# Altium footprint library buck2.PcbLib: 24 footprints (part 2 of 2)
Each footprint in its own frame and in the unit in brackets; x right, y up, seen from the top. Pads: shape width x height; smd on the part's side, far side on the other; paste and mask are expansions set on the pad; w line width, h text height; cw(c..) or ccw(c..) is an arc to the next point about the centre after c.
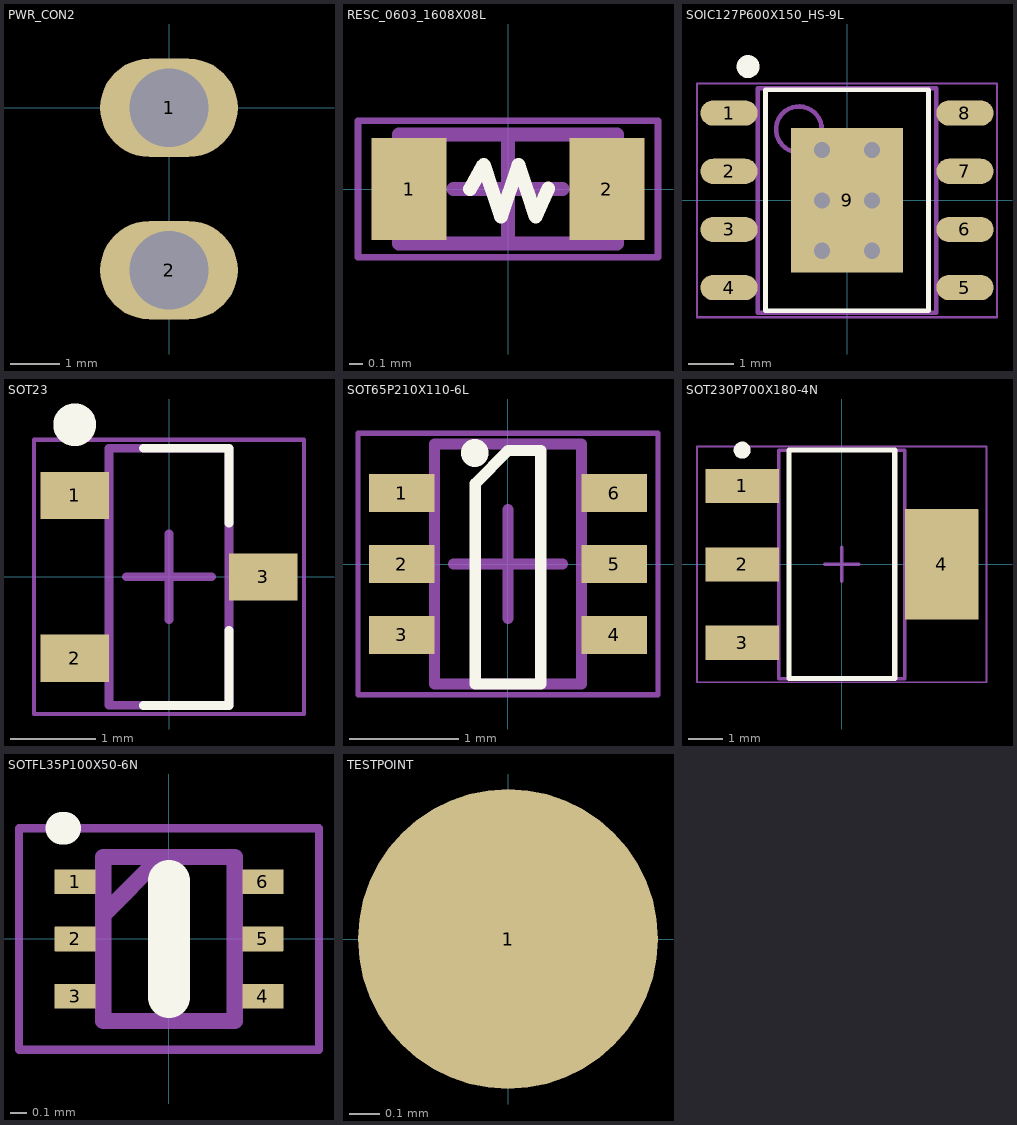
[diagram p1: the footprints below, top view; thin cyan lines are the x and y axes]

## PWR_CON2 [mm]
pads (2):
  oval 2.8x2 hole 1.6: 1(0,0) 2(0,-3.302)

## RESC_0603_1608X08L [mm] "Chip Resistor, 2-Leads, Body 1.60x0.80mm, IPC High Density"
height 0.8
pads (2):
  rrect1% 0.55x0.75 smd: 1(-0.725,0) 2(0.725,0)
Top Overlay:
  lines w0.102: -0.279,0 -0.178,0.178 -0.051,-0.203 0.076,0.178 0.203,-0.203 0.295,0.004
Mechanical 13:
  lines w0.1: -0.8,-0.4 -0.8,0.4 0.8,0.4 0.8,-0.4 -0.8,-0.4
Mechanical 15:
  lines w0.05: -1.1,-0.5 -1.1,0.5 1.1,0.5 1.1,-0.5 -1.1,-0.5
  lines w0.1: -0.4,0 0.4,0 ; 0,-0.4 0,0.4
3D body "RESC_0603_1608X08L.step": height 0.8, standoff 0, extent -0.8,-0.4 0.8,0.4

## SOIC127P600X150_HS-9L [mm] "SOIC, 8-Leads, Body 4.88x3.85mm, Pitch 1.27mm, Thermal Pad 3.15x2.45mm, IPC High Density"
height 1.5
pads (9):
  oval 1.25x0.55 smd: 1(-2.575,1.905) 2(-2.575,0.635) 3(-2.575,-0.635) 4(-2.575,-1.905) 5(2.575,-1.905) 6(2.575,-0.635) 7(2.575,0.635) 8(2.575,1.905)
  rect 2.45x3.15 smd: 9(0,0)
via 0.55,-1.1 diameter 0.5 hole 0.35
via -0.55,-1.1 diameter 0.5 hole 0.35
via 0.55,0 diameter 0.5 hole 0.35
via -0.55,0 diameter 0.5 hole 0.35
via 0.55,1.1 diameter 0.5 hole 0.35
via -0.55,1.1 diameter 0.5 hole 0.35
Top Overlay:
  circle w0.25: c-2.159,2.921 r0.125
  lines w0.102: -1.778,-2.413 1.778,-2.413 1.778,2.413 -1.778,2.413 -1.778,-2.413
Top Solder:
  circle w0.2: c-0.55,-1.1 r0.339
  circle w0.2: c0.55,-1.1 r0.347
  circle w0.2: c-0.55,0 r0.339
  circle w0.2: c0.55,0 r0.347
  circle w0.2: c0.55,1.1 r0.347
  circle w0.2: c-0.55,1.1 r0.339
  region: -1.194,1.549 1.168,1.549 1.168,1.372 -1.194,1.372
  region: -1.194,1.549 -0.813,1.549 -0.813,-1.549 -1.194,-1.549
  region: -1.194,0.813 1.194,0.813 1.194,0.279 -1.194,0.279
  region: -1.194,-0.279 1.194,-0.279 1.194,-0.813 -1.194,-0.813
  region: -1.194,-1.372 1.194,-1.372 1.194,-1.549 -1.194,-1.549
  region: -0.279,1.549 0.279,1.549 0.279,-1.372 -0.279,-1.372
  region: 0.813,1.549 1.194,1.549 1.194,-1.549 0.813,-1.549
Mechanical 13:
  circle w0.1: c-1.05,1.55 r0.5
  lines w0.1: -1.95,-2.45 1.95,-2.45 1.95,2.45 -1.95,2.45 -1.95,-2.45
Mechanical 15:
  lines w0.05: -3.275,-2.55 3.275,-2.55 3.275,2.55 -3.275,2.55 -3.275,-2.55
  lines w0.1: -0.5,0 0.5,0 ; 0,-0.5 0,0.5
3D body "SOIC127P600X150_HS-9L.step": height 1.5, standoff 0, extent -2.975,-2.45 2.975,2.45

## SOT23 [mm] "SOT23, 3-Leads, Body 2.90x2.45mm, Pitch 0.95mm, IPC High Density"
height 1.1
pads (3):
  rrect1% 0.8x0.55 smd: 1(-1.1,0.95) 2(-1.1,-0.95) 3(1.1,0)
Top Overlay:
  circle w0.25: c-1.1,1.775 r0.125
  lines w0.102: -0.3,-1.5 0.7,-1.5 0.7,-0.626 ; -0.3,1.5 0.7,1.5 0.7,0.626
Mechanical 13:
  lines w0.1: -0.7,-1.5 0.7,-1.5 0.7,1.5 -0.7,1.5 -0.7,-1.5
Mechanical 15:
  lines w0.05: -1.575,-1.6 1.575,-1.6 1.575,1.6 -1.575,1.6 -1.575,-1.6
  lines w0.1: -0.5,0 0.5,0 ; 0,-0.5 0,0.5
3D body "SOT23.step": height 1.1, standoff 0, extent -1.3,-1.5 1.3,1.5

## SOT65P210X110-6L [mm] "SOT23, 6-Leads, Body 2.00x2.10mm, Pitch 0.65mm, IPC High Density"
height 1.1
pads (6):
  rrect1% 0.6x0.35 smd: 1(-0.975,0.65) 2(-0.975,0) 3(-0.975,-0.65) 4(0.975,-0.65) 5(0.975,0) 6(0.975,0.65)
Top Overlay:
  lines w0.102: -0.3,-1.1 0.3,-1.1 0.3,1.039 0,1.039 -0.3,0.739 -0.3,-1.1
  lines w0.25: -0.305,1.016 ccw(c-0.43,1.023) -0.305,1.023
Mechanical 13:
  lines w0.1: -0.675,-1.1 -0.675,1.1 0.675,1.1 0.675,-1.1 -0.675,-1.1
Mechanical 15:
  lines w0.05: -1.375,-1.2 -1.375,1.2 1.375,1.2 1.375,-1.2 -1.375,-1.2
  lines w0.1: -0.5,0 0.5,0 ; 0,-0.5 0,0.5
3D body "SOT65P210X110-6L.step": height 1.1, standoff 0, extent -1.1,-1.1 1.1,1.1

## SOT230P700X180-4N [mm] "SOT223, 4-Leads, Body 6.50x7.00mm (avg), Pitch 2.30mm, IPC Medium Density"
height 1.8
pads (4):
  rrect1% 2.15x1 smd: 1(-2.925,2.3) 2(-2.925,0) 3(-2.925,-2.3)
  rrect1% 2.15x3.25 smd: 4(2.925,0)
Top Overlay:
  circle w0.25: c-2.925,3.35 r0.125
  lines w0.152: -1.55,-3.35 1.55,-3.35 1.55,3.35 -1.55,3.35 -1.55,-3.35
Mechanical 13:
  lines w0.1: -1.85,-3.35 1.85,-3.35 1.85,3.35 -1.85,3.35 -1.85,-3.35
Mechanical 15:
  lines w0.05: -4.25,-3.454 -4.25,3.454 4.242,3.454 4.242,-3.454 -4.25,-3.454
  lines w0.1: -0.5,0 0.5,0 ; 0,-0.5 0,0.5
3D body "SOT230P700X180-4N.step": height 1.8, standoff 0, extent -3.5,-3.35 3.5,3.35

## SOTFL35P100X50-6N [mm]
pads (6):
  rrect1% 0.25x0.15 smd: 1(-0.572,0.35) 2(-0.572,0) 3(-0.572,-0.35) 4(0.572,-0.35) 5(0.572,0) 6(0.572,0.35)
Top Overlay:
  lines w0.2: -0.654,0.675 -0.638,0.675
  lines w0.254: 0,-0.356 0,0.356
Mechanical 13:
  lines w0.1: -0.4,0.15 -0.05,0.5 ; -0.4,-0.5 -0.4,0.5 0.4,0.5 0.4,-0.5 -0.4,-0.5
Mechanical 15:
  lines w0.05: -0.915,-0.675 -0.915,0.675 0.915,0.675 0.915,-0.675 -0.915,-0.675
3D body "DMC2990UDJ-7.stp": height 0.5, standoff 0, extent -0.5,-0.5 0.5,0.5

## TESTPOINT [mm]
pads (1):
  round 1 smd paste+0: 1(0,0)